# Altium footprint library PQFN50P250X450X100-20T.PcbLib: 1 footprints
Each footprint in its own frame and in the unit in brackets; x right, y up, seen from the top. Pads: shape width x height; smd on the part's side, far side on the other; paste and mask are expansions set on the pad; w line width, h text height; cw(c..) or ccw(c..) is an arc to the next point about the centre after c.
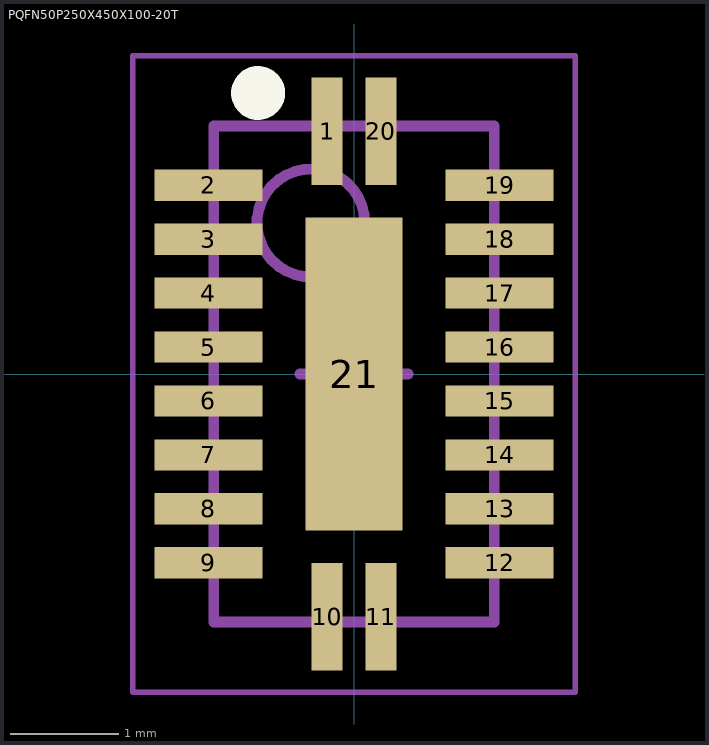
[diagram p0: the footprint, top view; thin cyan lines are the x and y axes]

## PQFN50P250X450X100-20T [mm] "PQFN, 20-Leads, Body 2.50x4.50mm, Pitch 0.50mm, Thermal Pad 1.00x3.00mm"
height 1
pads (21):
  rect 0.29x1 smd paste-0.025: 1(-0.25,2.25) 10(-0.25,-2.25) 11(0.25,-2.25) 20(0.25,2.25)
  rect 1x0.29 smd paste-0.025: 2(-1.35,1.75) 3(-1.35,1.25) 4(-1.35,0.75) 5(-1.35,0.25) 6(-1.35,-0.25) 7(-1.35,-0.75) 8(-1.35,-1.25) 9(-1.35,-1.75) 12(1.35,-1.75) 13(1.35,-1.25) 14(1.35,-0.75) 15(1.35,-0.25) 16(1.35,0.25) 17(1.35,0.75) 18(1.35,1.25) 19(1.35,1.75)
  rect 0.9x2.9 smd paste-0.5: 21(0,0)
Top Overlay:
  circle w0.25: c-0.889,2.605 r0.125
Top Paste:
  rectangle: -0.2,0.2 0.2,0.85
  rectangle: -0.2,-0.85 0.2,-0.2
Mechanical 13:
  circle w0.1: c-0.4,1.4 r0.5
  lines w0.1: -1.3,-2.3 -1.3,2.3 1.3,2.3 1.3,-2.3 -1.3,-2.3
Mechanical 15:
  lines w0.05: -2.05,-2.95 -2.05,2.95 2.05,2.95 2.05,-2.95 -2.05,-2.95
  lines w0.1: -0.5,0 0.5,0 ; 0,-0.5 0,0.5
3D body "PQFN50P250X450X100_HS-21N.step": height 1, standoff 0, extent -1.3,-2.3 1.3,2.3